# Altium schematic symbol library TPS6293x.SchLib: 1 symbol
Pins are listed as number, name and electrical type; pins without a type are passive.

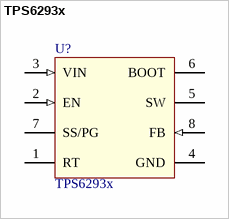
[diagram p0: symbol TPS6293x]

## TPS6293x
designator U?
3.8-V to 30-V, 2-A, 3-A Synchronous Buck Converters in a SOT583 Package; value: TPS54232
footprint SOT-583-8 (SOT583, 8-Leads, Body 2.10x1.20mm, Pitch 0.50mm, IPC Medium Density)
pins: 1 RT, 2 EN (in), 3 VIN (in), 4 GND (power), 5 SW (power), 6 BOOT, 7 SS/PG, 8 FB (in)